# Altium schematic symbol library SATA-Power.SchLib: 1 symbol
Pins are listed as number, name and electrical type; pins without a type are passive.

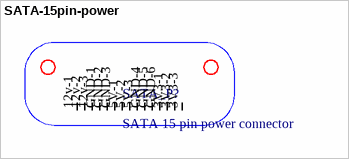
[diagram p0: symbol SATA-15pin-power]

## SATA-15pin-power
designator SATA_P?, comment SATA 15 pin power connector
footprint Sata_15pin_power
pins: 3V3-1 13 (power), 3V3-2 14 (power), 3V3-3 15 (power), 5V-1 7 (power), 5V-2 8 (power), 5V-3 9 (power), 12v-1 1 (power), 12v-2 2 (power), 12v-3 3 (power), GND-1 4, GND-2 5, GND-3 6, GND-4 10, GND-5 11, GND-6 12